# EAGLE library part SFP (library SFP)
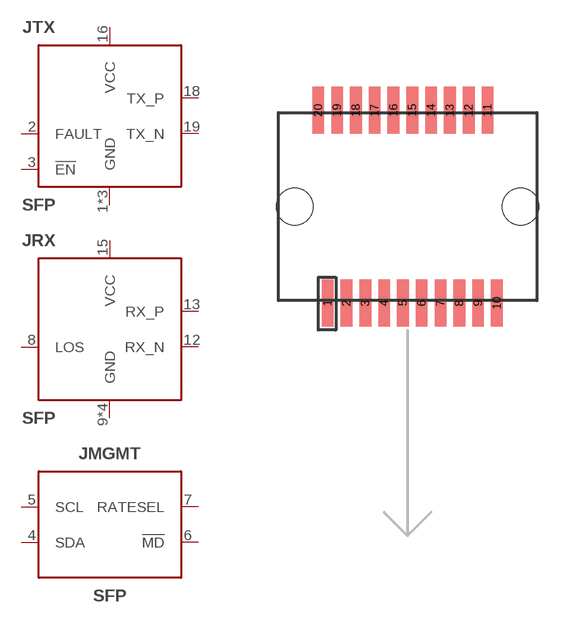
[diagram p0: symbol with the pads of 74441-0001; footprint 74441-0001]

Designator prefix J; gates TX=SFP-TX RX=SFP-RX MGMT=SFP-MGMT

## SFP  [74441-0001]
1  TX:GND  pwr
2  TX:FAULT  out
3  TX:!EN  in
4  MGMT:SDA
5  MGMT:SCL  in
6  MGMT:!MD  out
7  MGMT:RATESEL  in
8  RX:LOS  out
9  RX:GND  pwr
10  RX:GND  pwr
11  RX:GND  pwr
12  RX:RX_N  out
13  RX:RX_P  out
14  RX:GND  pwr
15  RX:VCC  pwr
16  TX:VCC  pwr
17  TX:GND  pwr
18  TX:TX_P  in
19  TX:TX_N  in
20  TX:GND  pwr

## Footprint 74441-0001 (pad centres in mm)
smd 0.5 x 2: 1 -3.4,-4.1; 2 -2.6,-4.1; 3 -1.8,-4.1; 4 -1,-4.1; 5 -0.2,-4.1; 6 0.6,-4.1; 7 1.4,-4.1; 8 2.2,-4.1; 9 3,-4.1; 10 3.8,-4.1; 11 3.4,4.1; 12 2.6,4.1; 13 1.8,4.1; 14 1,4.1; 15 0.2,4.1; 16 -0.6,4.1; 17 -1.4,4.1; 18 -2.2,4.1; 19 -3,4.1; 20 -3.8,4.1
hole 1.55 at -4.8,0
hole 1.55 at 4.8,0